# EAGLE library part 692121430000 (library 629004113921_Eagle_WR-USB_rev20c)
WR-COM USB 3.0 Type A Vertical THT Kind Properties Durability:5 000 Mating cycles Quality Class:5 000 Mating cycles Connector Type:USB Gender:Receptacle Type:Vertical General Information Operating Temperature:-20up to +85 °C Compliance:RoHS Electrical Properties IR 1:1.8A Working Voltage:30V (AC) Withstanding Voltage:100V (AC) Contact Resistance:50 mΩ Material Properties Insulator Material:LCP Insulator Flammability Rating:UL94 V-0 Color:Blue Contact Material:Copper Alloy Contact Plating:Selective Gold Contact Type:Stamped Shielding Material:INOX Steel <https://www.we-online.com/catalog/media/o58971v209%20Family_WR-COM_USB_3.0_Vertical_692121430000.jpg> Details see: https://www.we-online.com/catalog/en/COM_3_0_THT_TYPE_A_VERTICAL/ Updated by Yingchun, Shan 2020-01-16 2020 (C) Würth Elektronik
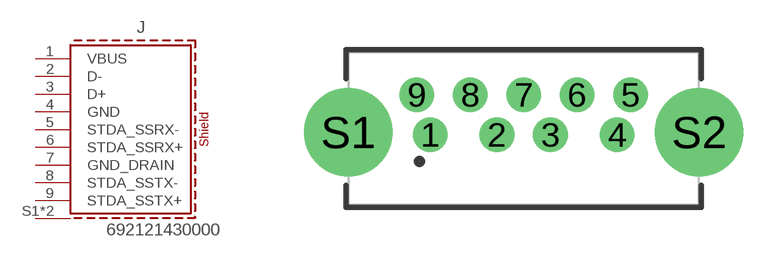
[diagram p28: symbol with the pads of 692121430000; footprint 692121430000]

Designator prefix J

## 692121430000 (APPLICATION: USB 3.0; DATASHEET-URL: https://www.we-online.com/catalog/datasheet/692121430000.pdf; GERDER: Receptacle; INTERFACE-TYPE: Type A; IR1: 1.8A; MOUNT: THT; PACKAGING: Tray; PART-NUMBER: 692121430000; PINS: 9; TYPE: Vertical; VALUE: 692121430000; WORKING-VOLTAGE: 30V(AC))  [692121430000]
1  VBUS
2  D-
3  D+
4  GND
5  STDA_SSRX-
6  STDA_SSRX+
7  GND_DRAIN
8  STDA_SSTX-
9  STDA_SSTX+
S1  SHIELD
S2  SHIELD

## Footprint 692121430000 (pad centres in mm)
WR-COM USB 3.0 Type A Vertical THT
drill 0.7 pad 1.3: 1 -3.5,-0.24; 2 -1,-0.24; 3 1,-0.24; 4 3.5,-0.24; 5 4,1.26; 6 2,1.26; 7 0,1.26; 8 -2,1.26; 9 -4,1.26
drill 2.3: S1 -6.57,-0.14; S2 6.57,-0.14